# EAGLE library part MOLEX-47346-0001 (library pixhawk2-updated)
MICRO USB B, BOTTOM MOUNT
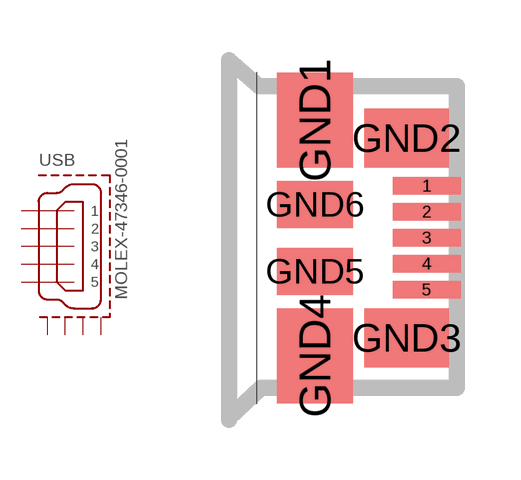
[diagram p2: symbol with the pads of MOLEX-47346-0001; footprint MOLEX-47346-0001]

Designator prefix USB

## MOLEX-47346-0001  [MOLEX-47346-0001]
1  1  sup
2  2
3  3
4  4  pas
5  5  sup
GND1  GND1
GND2  GND2
GND3  GND3
GND4  GND4

## Footprint MOLEX-47346-0001 (pad centres in mm)
smd 1.7 x 0.44: 1 2.8,1.3; 2 2.8,0.65; 3 2.8,0; 4 2.8,-0.65; 5 2.8,-1.3
smd 1.9 x 2.375: GND1 0,2.95; GND4 0,-2.95
smd 2.1 x 1.475: GND2 2.3,2.5; GND3 2.3,-2.5
smd 1.9 x 1.175: GND5 0,-0.838; GND6 0,0.838